# Altium footprint library CAPRR1600W70L1750T600H1200.PcbLib: 1 footprints
Each footprint in its own frame and in the unit in brackets; x right, y up, seen from the top. Pads: shape width x height; smd on the part's side, far side on the other; paste and mask are expansions set on the pad; w line width, h text height; cw(c..) or ccw(c..) is an arc to the next point about the centre after c.
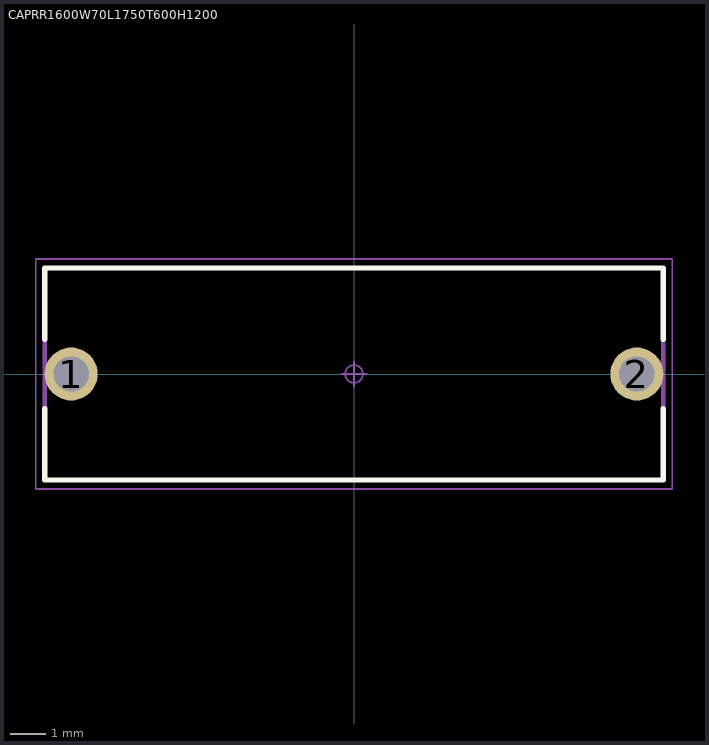
[diagram p0: the footprint, top view; thin cyan lines are the x and y axes]

## CAPRR1600W70L1750T600H1200 [mm] "Capacitor, Radial (Dipped, Rectangular), 16.00 mm Pitch X 0.70 mm W X 17.50 mm L X 6.00 mm T X 12.00 mm H body"
height 12
pads (2):
  round 1.5 hole 1 paste-2539.97: 1(-8,0) 2(8,0)
Top Overlay:
  lines w0.15: -8.75,-0.975 -8.75,-3 8.75,-3 8.75,-0.975 ; -8.75,0.975 -8.75,3 8.75,3 8.75,0.975
Mechanical 11:
  lines w0.12: -8.75,-3 8.75,-3 8.75,3 -8.75,3 -8.75,-3
Mechanical 12:
  circle w0.025: c8,0 r0.4
  circle w0.025: c-8,0 r0.4
  lines w0.025: -8.75,-3 8.75,-3 8.75,3 -8.75,3 -8.75,-3
Mechanical 15:
  circle w0.05: c0,0 r0.25
  lines w0.05: -0.35,0 0.35,0 ; 0,-0.35 0,0.35 ; -9,-3.25 -9,3.25 9,3.25 9,-3.25 -9,-3.25
Mechanical 16:
  text ".Designator" at 0,0 h1.5
3D body "CAPRR1600W70L1750T600H1200.STEP": height 12, standoff -2, extent -8.75,-3 8.75,3